# EAGLE library part AD9953 (library Jim)
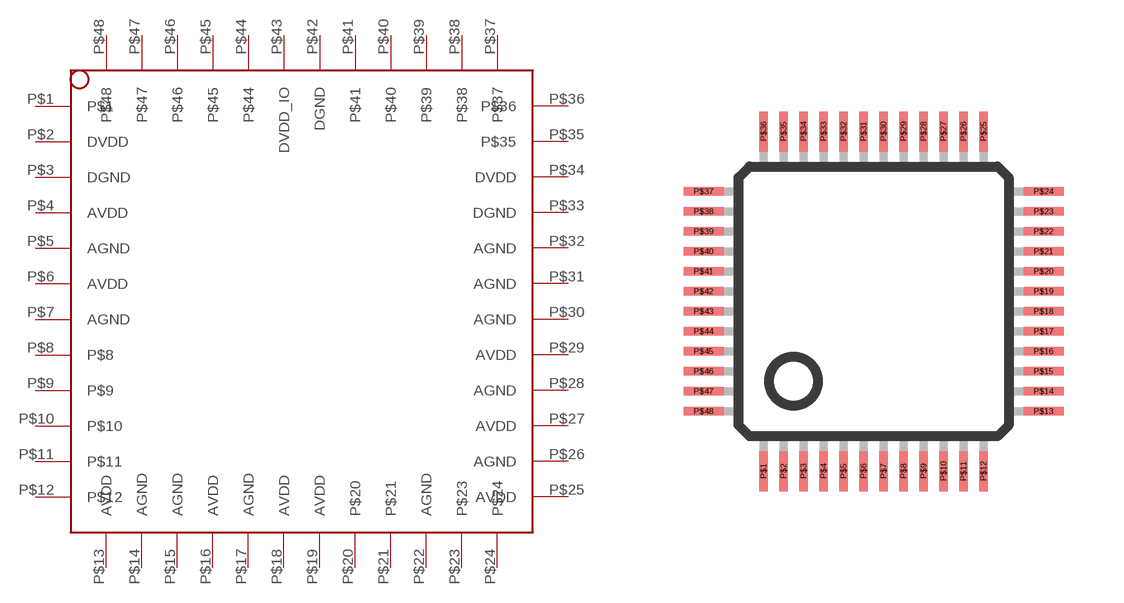
[diagram p11: symbol with the pads of MQFP48; footprint MQFP48]

Designator prefix -

## AD9953  [MQFP48]
P$1  P$1  in
P$2  DVDD  pwr
P$3  DGND  pwr
P$4  AVDD  pwr
P$5  AGND  pwr
P$6  AVDD  pwr
P$7  AGND  pwr
P$8  P$8  in
P$9  P$9  in
P$10  P$10  out
P$11  P$11  in
P$12  P$12  in
P$13  AVDD  pwr
P$14  AGND  pwr
P$15  AGND  pwr
P$16  AVDD  pwr
P$17  AGND  pwr
P$18  AVDD  pwr
P$19  AVDD  pwr
P$20  P$20  out
P$21  P$21  out
P$22  AGND  pwr
P$23  P$23  in
P$24  P$24  in
P$25  AVDD  pwr
P$26  AGND  pwr
P$27  AVDD  pwr
P$28  AGND  pwr
P$29  AVDD  pwr
P$30  AGND  pwr
P$31  AGND  pwr
P$32  AGND  pwr
P$33  DGND  pwr
P$34  DVDD  pwr
P$35  P$35  in
P$36  P$36  in
P$37  P$37  in
P$38  P$38  out
P$39  P$39  in
P$40  P$40  in
P$41  P$41
P$42  DGND  pwr
P$43  DVDD_IO  pwr
P$44  P$44  in
P$45  P$45  out
P$46  P$46  in
P$47  P$47  in
P$48  P$48  in

## Footprint MQFP48 (pad centres in mm)
Metric QFP, 48 pin, pad 0.22 x 1.00 mm, 0.5 mm pitch.
smd 0.22 x 1: P$1 -2.75,-4.25; P$2 -2.25,-4.25; P$3 -1.75,-4.25; P$4 -1.25,-4.25; P$5 -0.75,-4.25; P$6 -0.25,-4.25; P$7 0.25,-4.25; P$8 0.75,-4.25; P$9 1.25,-4.25; P$10 1.75,-4.25; P$11 2.25,-4.25; P$12 2.75,-4.25; P$25 2.75,4.25; P$26 2.25,4.25; P$27 1.75,4.25; P$28 1.25,4.25; P$29 0.75,4.25; P$30 0.25,4.25; P$31 -0.25,4.25; P$32 -0.75,4.25; P$33 -1.25,4.25; P$34 -1.75,4.25; P$35 -2.25,4.25; P$36 -2.75,4.25
smd 1 x 0.22: P$13 4.25,-2.75; P$14 4.25,-2.25; P$15 4.25,-1.75; P$16 4.25,-1.25; P$17 4.25,-0.75; P$18 4.25,-0.25; P$19 4.25,0.25; P$20 4.25,0.75; P$21 4.25,1.25; P$22 4.25,1.75; P$23 4.25,2.25; P$24 4.25,2.75; P$37 -4.25,2.75; P$38 -4.25,2.25; P$39 -4.25,1.75; P$40 -4.25,1.25; P$41 -4.25,0.75; P$42 -4.25,0.25; P$43 -4.25,-0.25; P$44 -4.25,-0.75; P$45 -4.25,-1.25; P$46 -4.25,-1.75; P$47 -4.25,-2.25; P$48 -4.25,-2.75